# Altium footprint library PCBLib.PcbLib: 31 footprints (part 2 of 2)
Each footprint in its own frame and in the unit in brackets; x right, y up, seen from the top. Pads: shape width x height; smd on the part's side, far side on the other; paste and mask are expansions set on the pad; w line width, h text height; cw(c..) or ccw(c..) is an arc to the next point about the centre after c.
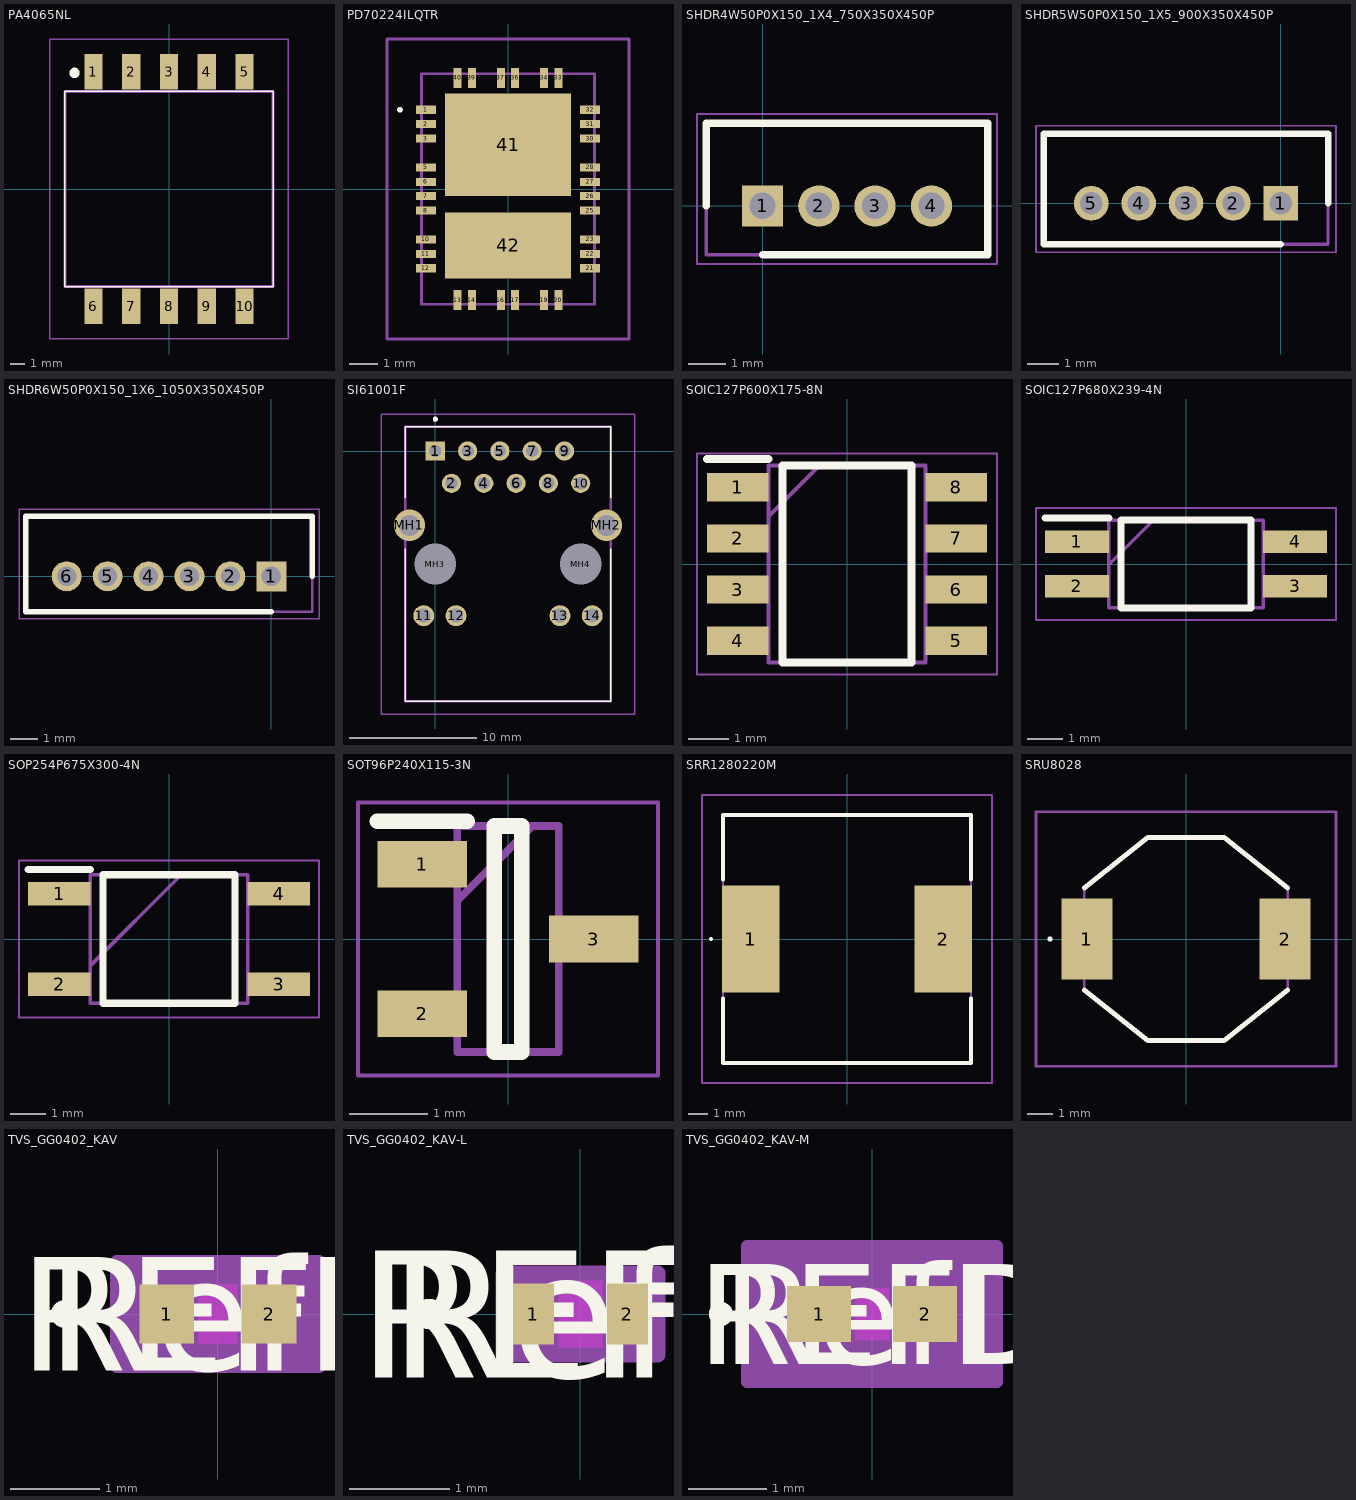
[diagram p1: the footprints below, top view; thin cyan lines are the x and y axes]

## PA4065NL [mm]
pads (10):
  rect 1.22x2.4 smd: 1(-5.08,7.88) 2(-2.54,7.88) 3(0,7.88) 4(2.54,7.88) 5(5.08,7.88) 6(-5.08,-7.88) 7(-2.54,-7.88) 8(0,-7.88) 9(2.54,-7.88) 10(5.08,-7.88)
Top Overlay:
  lines w0.1: -7,-6.555 -7,6.555 7,6.555 7,-6.555 -7,-6.555
  lines w0.6: -6.4,7.8 cw(c-6.35,7.8) -6.3,7.8 cw(c-6.35,7.8) -6.4,7.8
Mechanical 15:
  lines w0.2: -7,-6.555 -7,6.555 7,6.555 7,-6.555 -7,-6.555
Mechanical 20:
  lines w0.1: -8,-10.08 -8,10.08 8,10.08 8,-10.08 -8,-10.08

## PD70224ILQTR [mm]
pads (34):
  rect 0.7x0.28 smd: 1(-2.85,2.75) 2(-2.85,2.25) 3(-2.85,1.75) 5(-2.85,0.75) 6(-2.85,0.25) 7(-2.85,-0.25) 8(-2.85,-0.75) 10(-2.85,-1.75) 11(-2.85,-2.25) 12(-2.85,-2.75) 21(2.85,-2.75) 22(2.85,-2.25) 23(2.85,-1.75) 25(2.85,-0.75) 26(2.85,-0.25) 27(2.85,0.25) 28(2.85,0.75) 30(2.85,1.75) 31(2.85,2.25) 32(2.85,2.75)
  rect 0.28x0.7 smd: 13(-1.75,-3.855) 14(-1.25,-3.855) 16(-0.25,-3.855) 17(0.25,-3.855) 19(1.25,-3.855) 20(1.75,-3.855) 33(1.75,3.855) 34(1.25,3.855) 36(0.25,3.855) 37(-0.25,3.855) 39(-1.25,3.855) 40(-1.75,3.855)
  rect 4.37x3.56 smd: 41(0,1.53)
  rect 4.37x2.29 smd: 42(0,-1.955)
Top Overlay:
  lines w0.1: -3.8,2.75 ccw(c-3.75,2.75) -3.7,2.75 ccw(c-3.75,2.75) -3.8,2.75
Mechanical 15:
  lines w0.1: -3,-4 3,-4 3,4 -3,4 -3,-4
Mechanical 20:
  lines w0.1: -4.2,-5.205 4.2,-5.205 4.2,5.205 -4.2,5.205 -4.2,-5.205

## SHDR4W50P0X150_1X4_750X350X450P [mm]
pads (4):
  rect 1.1x1.1 / inner round 1.1 / far side rect 1.1x1.1 hole 0.7: 1(0,0)
  round 1.1 hole 0.7: 2(1.5,0) 3(3,0) 4(4.5,0)
Top Overlay:
  lines w0.2: -1.5,0 -1.5,2.2 6,2.2 6,-1.3 0,-1.3
Mechanical 15:
  lines w0.1: -1.5,-1.3 -1.5,2.2 6,2.2 6,-1.3 -1.5,-1.3
Mechanical 20:
  lines w0.05: -1.75,-1.55 -1.75,2.45 6.25,2.45 6.25,-1.55 -1.75,-1.55

## SHDR5W50P0X150_1X5_900X350X450P [mm]
pads (5):
  rect 1.1x1.1 / inner round 1.1 / far side rect 1.1x1.1 hole 0.7: 1(0,0)
  round 1.1 hole 0.7: 2(-1.5,0) 3(-3,0) 4(-4.5,0) 5(-6,0)
Top Overlay:
  lines w0.2: 0,-1.3 -7.5,-1.3 -7.5,2.2 1.5,2.2 1.5,0
Mechanical 15:
  lines w0.1: -7.5,-1.3 1.5,-1.3 1.5,2.2 -7.5,2.2 -7.5,-1.3
Mechanical 20:
  lines w0.05: -7.75,-1.55 1.75,-1.55 1.75,2.45 -7.75,2.45 -7.75,-1.55

## SHDR6W50P0X150_1X6_1050X350X450P [mm]
pads (6):
  rect 1.1x1.1 / inner round 1.1 / far side rect 1.1x1.1 hole 0.7: 1(0,0)
  round 1.1 hole 0.7: 2(-1.5,0) 3(-3,0) 4(-4.5,0) 5(-6,0) 6(-7.5,0)
Top Overlay:
  lines w0.2: 0,-1.3 -9,-1.3 -9,2.2 1.5,2.2 1.5,0
Mechanical 15:
  lines w0.1: -9,-1.3 -9,2.2 1.5,2.2 1.5,-1.3 -9,-1.3
Mechanical 20:
  lines w0.05: -9.25,-1.55 -9.25,2.45 1.75,2.45 1.75,-1.55 -9.25,-1.55

## SI61001F [mm]
pads (18):
  rect 1.509x1.509 hole 0.97: 1(0,0)
  round 1.509 hole 0.97: 2(1.27,-2.54) 3(2.54,0) 4(3.81,-2.54) 5(5.08,0) 6(6.35,-2.54) 7(7.62,0) 8(8.89,-2.54) 9(10.16,0) 10(11.43,-2.54)
  round 1.65 hole 1.1: 11(-0.91,-12.95) 12(1.63,-12.95) 13(9.8,-12.95) 14(12.34,-12.95)
  round 2.475 hole 1.65: MH1(-2.03,-5.84) MH2(13.46,-5.84)
  round 1.625 hole 3.25 unplated: MH3(0,-8.89) MH4(11.43,-8.89)
Top Overlay:
  lines w0.1: -2.35,-7.68 -2.35,-19.68 13.78,-19.68 13.78,-7.68 ; -2.35,-3.68 -2.35,1.91 13.78,1.91 13.78,-3.68
  lines w0.2: 0,2.4 cw(c0,2.5) 0,2.6 cw(c0,2.5) 0,2.4
Mechanical 15:
  lines w0.2: -2.35,-19.68 -2.35,1.91 13.78,1.91 13.78,-19.68 -2.35,-19.68
Mechanical 20:
  lines w0.1: -4.267,-20.68 -4.267,2.91 15.698,2.91 15.698,-20.68 -4.267,-20.68

## SOIC127P600X175-8N [mm]
pads (8):
  rect 1.525x0.7 smd: 1(-2.712,1.905) 2(-2.712,0.635) 3(-2.712,-0.635) 4(-2.712,-1.905) 5(2.712,-1.905) 6(2.712,-0.635) 7(2.712,0.635) 8(2.712,1.905)
Top Overlay:
  lines w0.2: -3.475,2.605 -1.95,2.605 ; -1.6,-2.45 1.6,-2.45 1.6,2.45 -1.6,2.45 -1.6,-2.45
Mechanical 15:
  lines w0.1: -1.95,1.18 -0.68,2.45 ; -1.95,-2.45 1.95,-2.45 1.95,2.45 -1.95,2.45 -1.95,-2.45
Mechanical 20:
  lines w0.05: -3.725,-2.75 3.725,-2.75 3.725,2.75 -3.725,2.75 -3.725,-2.75

## SOIC127P680X239-4N [mm]
pads (4):
  rect 1.825x0.65 smd: 1(-3.112,0.635) 2(-3.112,-0.635) 3(3.112,-0.635) 4(3.112,0.635)
Top Overlay:
  lines w0.2: -4.025,1.31 -2.2,1.31 ; -1.85,-1.25 1.85,-1.25 1.85,1.25 -1.85,1.25 -1.85,-1.25
Mechanical 15:
  lines w0.1: -2.2,-0.02 -0.93,1.25 ; -2.2,-1.25 2.2,-1.25 2.2,1.25 -2.2,1.25 -2.2,-1.25
Mechanical 20:
  lines w0.05: -4.275,-1.595 4.275,-1.595 4.275,1.595 -4.275,1.595 -4.275,-1.595

## SOP254P675X300-4N [mm]
pads (4):
  rect 1.75x0.65 smd: 1(-3.075,1.27) 2(-3.075,-1.27) 3(3.075,-1.27) 4(3.075,1.27)
Top Overlay:
  lines w0.2: -3.95,1.945 -2.2,1.945 ; -1.85,-1.8 1.85,-1.8 1.85,1.8 -1.85,1.8 -1.85,-1.8
Mechanical 15:
  lines w0.1: -2.2,-0.74 0.34,1.8 ; -2.2,-1.8 2.2,-1.8 2.2,1.8 -2.2,1.8 -2.2,-1.8
Mechanical 20:
  lines w0.05: -4.2,-2.2 4.2,-2.2 4.2,2.2 -4.2,2.2 -4.2,-2.2

## SOT96P240X115-3N [mm]
pads (3):
  rect 1.15x0.6 smd: 1(-1.1,0.96) 2(-1.1,-0.96) 3(1.1,0)
Top Overlay:
  lines w0.2: -1.675,1.51 -0.525,1.51 ; -0.175,-1.45 0.175,-1.45 0.175,1.45 -0.175,1.45 -0.175,-1.45
Mechanical 15:
  lines w0.1: -0.65,0.49 0.31,1.45 ; -0.65,-1.45 0.65,-1.45 0.65,1.45 -0.65,1.45 -0.65,-1.45
Mechanical 20:
  lines w0.05: -1.925,-1.75 1.925,-1.75 1.925,1.75 -1.925,1.75 -1.925,-1.75

## SRR1280220M [mm]
pads (2):
  rect 2.9x5.4 smd: 1(-4.85,0) 2(4.85,0)
Top Overlay:
  lines w0.1: -6.9,0 ccw(c-6.85,0) -6.8,0 ccw(c-6.85,0) -6.9,0
  lines w0.2: -6.25,-3 -6.25,-6.25 6.25,-6.25 6.25,-3 ; -6.25,3 -6.25,6.25 6.25,6.25 6.25,3
Mechanical 15:
  lines w0.1: -6.25,-6.25 -6.25,6.25 6.25,6.25 6.25,-6.25 -6.25,-6.25
Mechanical 20:
  lines w0.1: -7.3,-7.25 -7.3,7.25 7.3,7.25 7.3,-7.25 -7.3,-7.25

## SRU8028 [mm]
pads (2):
  rect 2x3.2 smd: 1(-3.9,0) 2(3.9,0)
Top Overlay:
  lines w0.1: -5.4,0 cw(c-5.35,0) -5.3,0 cw(c-5.35,0) -5.4,0
  lines w0.2: -4,-2 -1.5,-4 1.5,-4 4,-2 ; -4,2 -1.5,4 1.5,4 4,2
Mechanical 15:
  lines w0.1: -4,-1.5 -4,-2 -1.5,-4 1.5,-4 4,-2 4,2 1.5,4 -1.5,4 -4,2 -4,1.5
Mechanical 20:
  lines w0.1: -5.9,-5 -5.9,5 5.9,5 5.9,-5 -5.9,-5

## TVS_GG0402_KAV [mil]
pads (2):
  rect 24x26 smd paste+0 mask+0: 1(-22.5,0) 2(22.5,0)
Top Layer keep-out:
  region: -8.5,-11 -8.5,11 8.5,11 8.5,-11
Top Overlay:
  circle w6: c-67.5,0 r3
  text "REFDES" at -87.5,-25 h50
  text "RefDes" at -75,-25 h50
Keep-Out Layer:
  region: -8.5,-13 -8.5,13 8.5,13 8.5,-13
Mechanical 13:
  circle w0: c-17.5,0 r3
  lines w1: -20.5,-13 -20.5,13 ; -20.5,-13 20.5,-13 ; -20.5,-13 -10.5,-13 -10.5,13 -20.5,13 ; -20.5,-13 -20.5,13 ; -20.5,13 20.5,13 ; 20.5,-13 20.5,13 ; 20.5,-13 20.5,13 ; 20.5,-13 10.5,-13 10.5,13 20.5,13
  text "RefDes2" at -87.5,-25 h50
Mechanical 15:
  region: 44.5,-23 -44.5,-23 -44.5,23 44.5,23
  lines w6: -44.5,-23 44.5,-23 44.5,23 -44.5,23 -44.5,-23
3D body "TVS_GG0402_KAV.step": height 22.01, standoff 0, extent -20.51,-12.99 20.51,12.99

## TVS_GG0402_KAV-L [mil]
pads (2):
  rect 16x24 smd paste+0 mask+0: 1(-18.5,0) 2(18.5,0)
Top Layer keep-out:
  region: -8.5,-11 -8.5,11 8.5,11 8.5,-11
Top Overlay:
  circle w6: c-59.5,0 r3
  text "RefDes" at -75,-25 h50
  text "REFDES" at -87.5,-25 h50
Keep-Out Layer:
  region: -8.5,-13 -8.5,13 8.5,13 8.5,-13
Mechanical 13:
  circle w0: c-13.5,0 r3
  lines w1: -20.5,-13 -20.5,13 ; -20.5,-13 -10.5,-13 -10.5,13 -20.5,13 ; -20.5,-13 20.5,-13 ; -20.5,-13 -20.5,13 ; -20.5,13 20.5,13 ; 20.5,-13 10.5,-13 10.5,13 20.5,13 ; 20.5,-13 20.5,13 ; 20.5,-13 20.5,13
  text "RefDes2" at -87.5,-25 h50
Mechanical 15:
  region: 30.5,-16 -30.5,-16 -30.5,16 30.5,16
  lines w6: -30.5,-16 -30.5,16 30.5,16 30.5,-16 -30.5,-16
3D body "TVS_GG0402_KAV.step": height 22.01, standoff 0, extent -20.51,-12.99 20.51,12.99

## TVS_GG0402_KAV-M [mil]
pads (2):
  rect 32x28 smd paste+0 mask+0: 1(-26.5,0) 2(26.5,0)
Top Layer keep-out:
  region: -8.5,-11 -8.5,11 8.5,11 8.5,-11
Top Overlay:
  circle w6: c-75.5,0 r3
  text "RefDes" at -75,-25 h50
  text "REFDES" at -87.5,-25 h50
Keep-Out Layer:
  region: -8.5,-13 -8.5,13 8.5,13 8.5,-13
Mechanical 13:
  circle w0: c-21.5,0 r3
  lines w1: -20.5,-13 -20.5,13 ; -20.5,-13 -10.5,-13 -10.5,13 -20.5,13 ; -20.5,-13 20.5,-13 ; -20.5,-13 -20.5,13 ; -20.5,13 20.5,13 ; 20.5,-13 10.5,-13 10.5,13 20.5,13 ; 20.5,-13 20.5,13 ; 20.5,-13 20.5,13
  text "RefDes2" at -87.5,-25 h50
Mechanical 15:
  region: 62.5,-34 -62.5,-34 -62.5,34 62.5,34
  lines w6: -62.5,-34 -62.5,34 62.5,34 62.5,-34 -62.5,-34
3D body "TVS_GG0402_KAV.step": height 22.01, standoff 0, extent -20.51,-12.99 20.51,12.99